# Altium footprint library PCB - LEADED - SOIC-AMC3330DWE.PcbLib: 1 footprints
Each footprint in its own frame and in the unit in brackets; x right, y up, seen from the top. Pads: shape width x height; smd on the part's side, far side on the other; paste and mask are expansions set on the pad; w line width, h text height; cw(c..) or ccw(c..) is an arc to the next point about the centre after c.
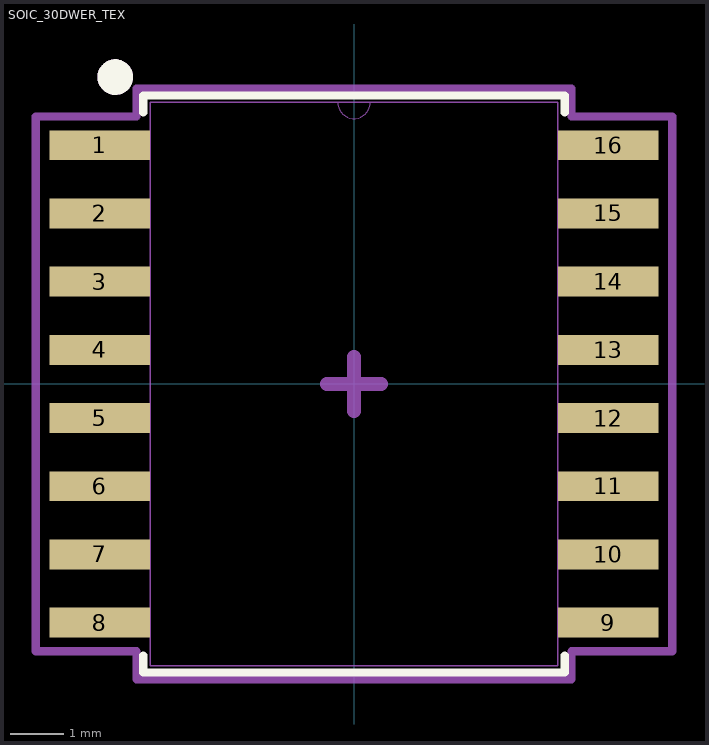
[diagram p0: the footprint, top view; thin cyan lines are the x and y axes]

## SOIC_30DWER_TEX [mil]
pads (16):
  rect 73.78x21.97 smd paste+0 mask+0: 1(-186.39,175) 2(-186.39,125) 3(-186.39,75) 4(-186.39,25) 5(-186.39,-25) 6(-186.39,-75) 7(-186.39,-125) 8(-186.39,-175) 9(186.39,-175) 10(186.39,-125) 11(186.39,-75) 12(186.39,-25) 13(186.39,25) 14(186.39,75) 15(186.39,125) 16(186.39,175)
Top Overlay:
  circle w14: c-175,225 r6.07
  lines w6: -154.5,-199.08 -154.5,-211.5 154.5,-211.5 154.5,-199.08 ; -154.5,199.08 -154.5,211.5 154.5,211.5 154.5,199.08
Top Assembly:
  circle w14: c-175,225 r6.07
  lines w0: -12,206.5 ccw(c0,206.5) 12,206.5
  lines w1: -209.5,-185 -149.5,-185 -149.5,-165 -209.5,-165 -209.5,-185 ; -209.5,-135 -149.5,-135 -149.5,-115 -209.5,-115 -209.5,-135 ; -209.5,-85 -209.5,-65 -149.5,-65 -149.5,-85 -209.5,-85 ; -209.5,-35 -149.5,-35 -149.5,-15 -209.5,-15 -209.5,-35 ; -209.5,15 -209.5,35 -149.5,35 -149.5,15 -209.5,15 ; -209.5,65 -209.5,85 -149.5,85 -149.5,65 -209.5,65 ; -209.5,115 -149.5,115 -149.5,135 -209.5,135 -209.5,115 ; -209.5,165 -149.5,165 -149.5,185 -209.5,185 -209.5,165 ; -149.5,-206.5 149.5,-206.5 149.5,206.5 -149.5,206.5 -149.5,-206.5 ; 149.5,-185 209.5,-185 209.5,-165 149.5,-165 149.5,-185 ; 149.5,-135 209.5,-135 209.5,-115 149.5,-115 149.5,-135 ; 149.5,-85 149.5,-65 209.5,-65 209.5,-85 149.5,-85 ; 149.5,-35 209.5,-35 209.5,-15 149.5,-15 149.5,-35 ; 149.5,15 149.5,35 209.5,35 209.5,15 149.5,15 ; 149.5,65 209.5,65 209.5,85 149.5,85 149.5,65 ; 149.5,115 149.5,135 209.5,135 209.5,115 149.5,115 ; 149.5,165 149.5,185 209.5,185 209.5,165 149.5,165
Top Courtyard:
  lines w6: -233.28,-195.98 -233.28,195.98 -159.5,195.98 -159.5,216.5 159.5,216.5 159.5,195.98 233.28,195.98 233.28,-195.98 159.5,-195.98 159.5,-216.5 -159.5,-216.5 -159.5,-195.98 -233.28,-195.98
Top Designator:
  text ".Designator" at -235,315 h60
Top Component Center:
  lines w10: -20,0 0,0 ; 0,-20 0,0 ; 0,20 0,0 ; 20,0 0,0
Top Value (Mech13):
  text ".Comment" at -240,260 h39.37
3D body "SOIC_30DWER_TEX.step": height 104.09, standoff 0, extent -209.49,-206.5 209.49,206.5